# EAGLE library part EXPL_CCP_RJ45 (library myparts)
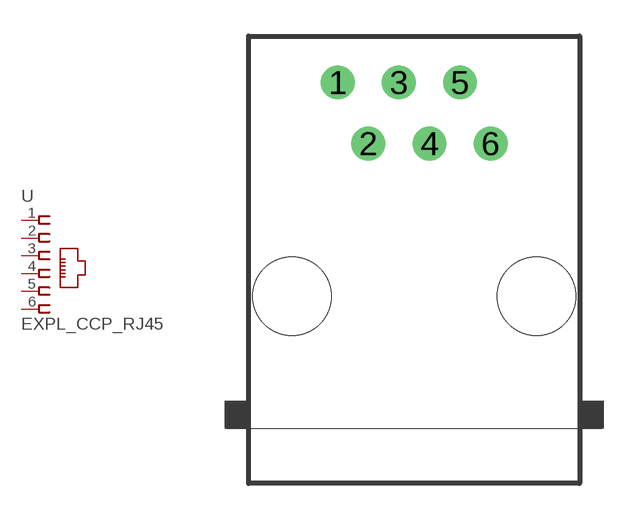
[diagram p3: symbol with the pads of RJ11-NO_SHIELD; footprint RJ11-NO_SHIELD]

Designator prefix -

## EXPL_CCP_RJ45  [RJ11-NO_SHIELD]
1  GND  pas
2  RA4  pas
3  AN12  pas
4  CCP2  pas
5  CCP1  pas
6  VDD  pas

## Footprint RJ11-NO_SHIELD (pad centres in mm)
RJ11 Low Profile No Shield For all RJ11 N and Z Series Models Source: www.tycoelectronics.com .. ENG_DS_1654001_1099_RJ_L_0507.pdf
drill 0.9 pad 1.4: 1 -3.175,8.89; 2 -1.905,6.35; 3 -0.635,8.89; 4 0.635,6.35; 5 1.905,8.89; 6 3.175,6.35
hole 3.251 at -5.08,0
hole 3.251 at 5.08,0